# Altium footprint library LibrairieBumper.PcbLib: 1 footprints
Each footprint in its own frame and in the unit in brackets; x right, y up, seen from the top. Pads: shape width x height; smd on the part's side, far side on the other; paste and mask are expansions set on the pad; w line width, h text height; cw(c..) or ccw(c..) is an arc to the next point about the centre after c.
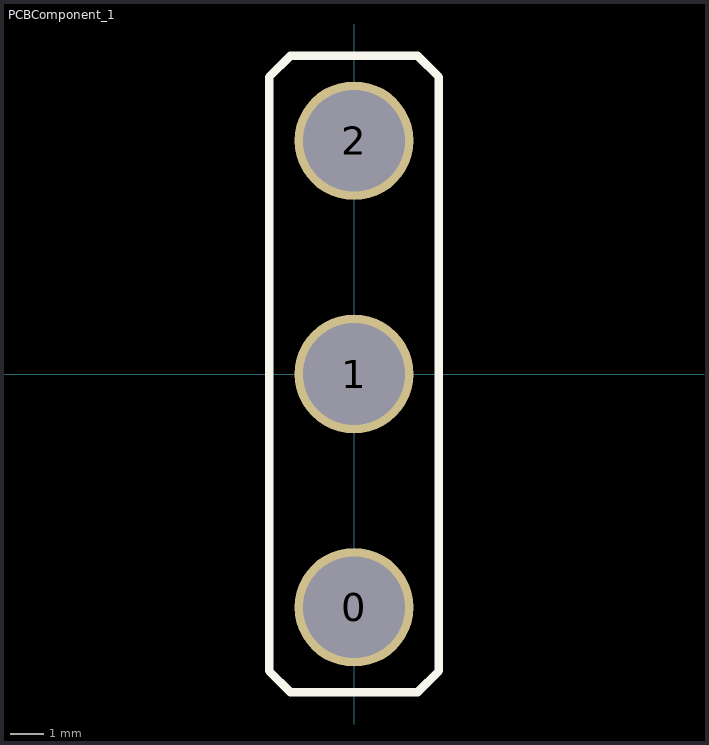
[diagram p0: the footprint, top view; thin cyan lines are the x and y axes]

## PCBComponent_1 [mil]
pads (3):
  round 140 hole 120: 0(0,-275) 1(0,0) 2(0,275)
Top Overlay:
  lines w10: -100,-350 -75,-375 75,-375 100,-350 100,350 75,375 -75,375 -100,350 -100,-350